# Altium integrated library 1-87220-0.IntLib: 1 symbol
Pins are listed as number, name and electrical type; pins without a type are passive.

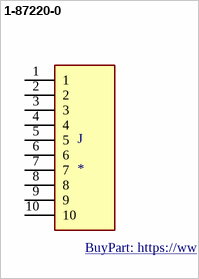
[diagram p0: symbol 1-87220-0]

## 1-87220-0
designator J
Connector Header Through Hole 10 position 0.100 (2.54mm); MP: 1-87220-0; MF: TE Connectivity; Package: None; DigiKey-Purchase-URL: https://snapeda.com/shop?store=DigiKey&id=2375301; EU_RoHS_Compliance: Compliant; Mouser-Purchase-URL: https://snapeda.com/shop?store=Mouser&id=2375301; Price: None; Availability: Warning; Value: *; SnapEDA_Link: https://www.snapeda.com/parts/1-87220-0/TE%20Connectivity%20AMP%20Connectors/view-part/2375301/?ref=snap; BuyPart: https://www.snapeda.com/parts/1-87220-0/TE%20Connectivity%20AMP%20Connectors/view-part/2375301/?ref=eda
footprint TE_1-87220-0
pins: 1, 2, 3, 4, 5, 6, 7, 8, 9, 10